# EAGLE library part 742G34 (library AWJLEagleLib)
Dual non-inverting buffer
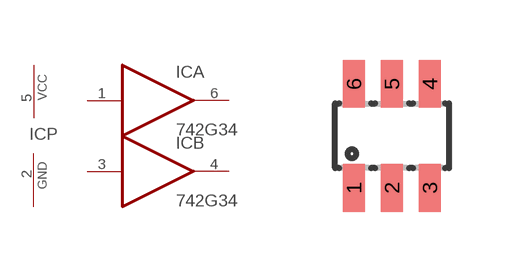
[diagram p19: symbol with the pads of SOT23-6; footprint SOT23-6]

Designator prefix IC; gates A=BUFFER B=BUFFER P=PWRN

## 742G34  [SOT23-6]
1  A:I  in
2  P:GND  pwr
3  B:I  in
4  B:O  oc
5  P:VCC  pwr
6  A:O  oc

## Footprint SOT23-6 (pad centres in mm)
smd 0.55 x 1.2: 1 -0.95,-1.3; 2 0,-1.3; 3 0.95,-1.3; 4 0.95,1.3; 5 0,1.3; 6 -0.95,1.3